# Altium footprint library 20-TSSOP-Epad.PcbLib: 2 footprints
Each footprint in its own frame and in the unit in brackets; x right, y up, seen from the top. Pads: shape width x height; smd on the part's side, far side on the other; paste and mask are expansions set on the pad; w line width, h text height; cw(c..) or ccw(c..) is an arc to the next point about the centre after c.
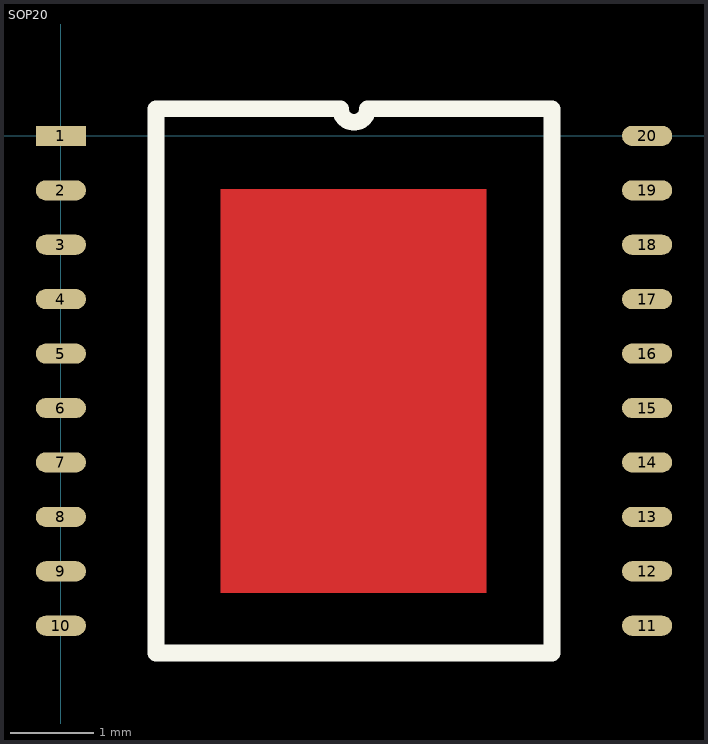
[diagram p0: the footprints below, top view; thin cyan lines are the x and y axes]

## PCBComponent_1 [mm]

## SOP20 [mm]
pads (20):
  rect 0.6x0.24 smd: 1(0,0)
  oval 0.6x0.24 smd: 2(0,-0.65) 3(0,-1.3) 4(0,-1.95) 5(0,-2.6) 6(0,-3.25) 7(0,-3.9) 8(0,-4.55) 9(0,-5.2) 10(0,-5.85) 11(7,-5.85) 12(7,-5.2) 13(7,-4.55) 14(7,-3.9) 15(7,-3.25) 16(7,-2.6) 17(7,-1.95) 18(7,-1.3) 19(7,-0.65) 20(7,0)
Top Layer:
  rectangle: 1.905,-5.461 5.08,-0.635
Top Overlay:
  lines w0.2: 1.135,-6.175 5.865,-6.175 5.865,0.325 3.662,0.325 cw(c3.5,0.325) 3.338,0.325 1.135,0.325 1.135,-6.175